# EAGLE library part 691314520110 (library Terminal_Blocks_Connectors_rev15e)
WR-TBL Serie 314 - 5.08mm Close 45° PCB Header with Flanges , 10 pins=>Code : WR-TBL_314_691314520110 <http://katalog.we-online.de/media/images/eican/WR-TBL_314_691314520103_pf2.jpg> Details see: http://katalog.we-online.de/en/em/691_314_520_1xx Created 2014-06-25, Karrer Zheng 2014 (C) Würth Elektronik
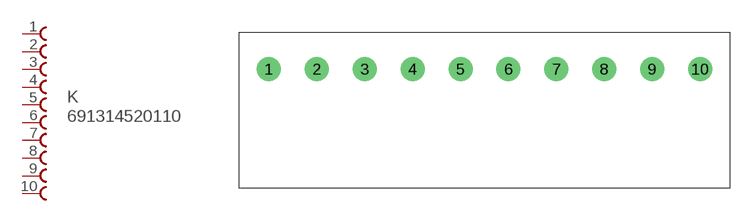
[diagram p156: symbol with the pads of 691314520110; footprint 691314520110]

Designator prefix K

## 691314520110  [691314520110]
1  1  pas
2  2  pas
3  3  pas
4  4  pas
5  5  pas
6  6  pas
7  7  pas
8  8  pas
9  9  pas
10  10  pas

## Footprint 691314520110 (pad centres in mm)
WR-TBL Serie 314 - 5.08mm Close 45° PCB Header with Flanges , 10 pins
drill 1.7: 1 -20.32,0; 2 -15.24,0; 3 -10.16,0; 4 -5.08,0; 5 0,0; 6 5.08,0; 7 10.16,0; 8 15.24,0; 9 20.32,0; 10 25.4,0